# EAGLE library part HLK-7688A (library mastrogippo)
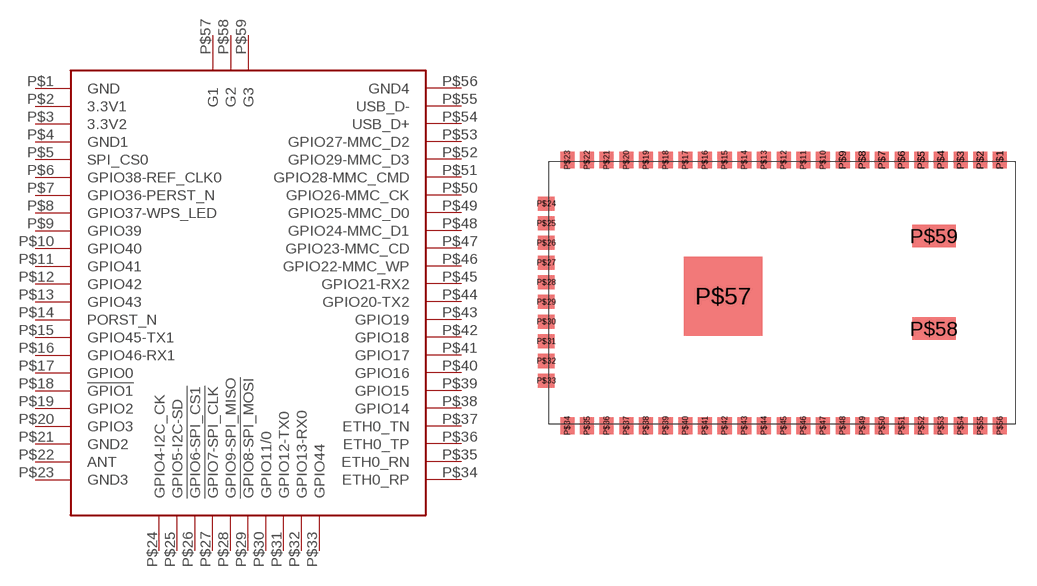
[diagram p21: symbol with the pads of HLK-7688A; footprint HLK-7688A]

Designator prefix -

## HLK-7688A  [HLK-7688A]
P$1  GND
P$2  3.3V1
P$3  3.3V2
P$4  GND1
P$5  SPI_CS0
P$6  GPIO38-REF_CLK0
P$7  GPIO36-PERST_N
P$8  GPIO37-WPS_LED
P$9  GPIO39
P$10  GPIO40
P$11  GPIO41
P$12  GPIO42
P$13  GPIO43
P$14  PORST_N
P$15  GPIO45-TX1
P$16  GPIO46-RX1
P$17  GPIO0
P$18  !GPIO1
P$19  GPIO2
P$20  GPIO3
P$21  GND2
P$22  ANT
P$23  GND3
P$24  GPIO4-I2C_CK
P$25  GPIO5-I2C-SD
P$26  !GPIO6-SPI_CS1
P$27  !GPIO7-SPI_CLK
P$28  GPIO9-SPI_MISO
P$29  !GPIO8-SPI_MOSI
P$30  GPIO11/0
P$31  GPIO12-TX0
P$32  GPIO13-RX0
P$33  GPIO44
P$34  ETH0_RP
P$35  ETH0_RN
P$36  ETH0_TP
P$37  ETH0_TN
P$38  GPIO14
P$39  GPIO15
P$40  GPIO16
P$41  GPIO17
P$42  GPIO18
P$43  GPIO19
P$44  GPIO20-TX2
P$45  GPIO21-RX2
P$46  GPIO22-MMC_WP
P$47  GPIO23-MMC_CD
P$48  GPIO24-MMC_D1
P$49  GPIO25-MMC_D0
P$50  GPIO26-MMC_CK
P$51  GPIO28-MMC_CMD
P$52  GPIO29-MMC_D3
P$53  GPIO27-MMC_D2
P$54  USB_D+
P$55  USB_D-
P$56  GND4
P$57  G1
P$58  G2
P$59  G3

## Footprint HLK-7688A (pad centres in mm)
smd 1 x 1.2: P$1 32.1,18.8; P$2 30.7,18.8; P$3 29.3,18.8; P$4 27.9,18.8; P$5 26.5,18.8; P$6 25.1,18.8; P$7 23.7,18.8; P$8 22.3,18.8; P$9 20.9,18.8; P$10 19.5,18.8; P$11 18.1,18.8; P$12 16.7,18.8; P$13 15.3,18.8; P$14 13.9,18.8; P$15 12.5,18.8; P$16 11.1,18.8; P$17 9.7,18.8; P$18 8.3,18.8; P$19 6.9,18.8; P$20 5.5,18.8; P$21 4.1,18.8; P$22 2.7,18.8; P$23 1.3,18.8; P$34 1.3,-0.1; P$35 2.7,-0.1; P$36 4.1,-0.1; P$37 5.5,-0.1; P$38 6.9,-0.1; P$39 8.3,-0.1; P$40 9.7,-0.1; P$41 11.1,-0.1; P$42 12.5,-0.1; P$43 13.9,-0.1; P$44 15.3,-0.1; P$45 16.7,-0.1; P$46 18.1,-0.1; P$47 19.5,-0.1; P$48 20.9,-0.1; P$49 22.3,-0.1; P$50 23.7,-0.1; P$51 25.1,-0.1; P$52 26.5,-0.1; P$53 27.9,-0.1; P$54 29.3,-0.1; P$55 30.7,-0.1; P$56 32.1,-0.1
smd 1.2 x 1: P$24 -0.2,15.7; P$25 -0.2,14.3; P$26 -0.2,12.9; P$27 -0.2,11.5; P$28 -0.2,10.1; P$29 -0.2,8.7; P$30 -0.2,7.3; P$31 -0.2,5.9; P$32 -0.2,4.5; P$33 -0.2,3.1
smd 5.6 x 5.6: P$57 12.4,9.1
smd 3.1 x 1.6: P$58 27.4,6.8; P$59 27.4,13.4